# EAGLE library part ODROID_XU4_30PIN_CONN (library nickZhang)
Odroid XU4's CON10 (30pin header) Pin layout for Odroid XU4's CON10 (30pin header). NOTE: There are two versions. One original and one coupled(mirrored). Use the original for stacking extensionboards. Use the couped version if you have an inverted stacking board(if the top plate is facing toward Odroid.) if your board is connected through a cable, it depends on what kind of cable you use. Be careful about pin location before use, you may want to use a mirrored version Reference <https://wiki.odroid.com/odroid-xu4/hardware/expansion_connectors>
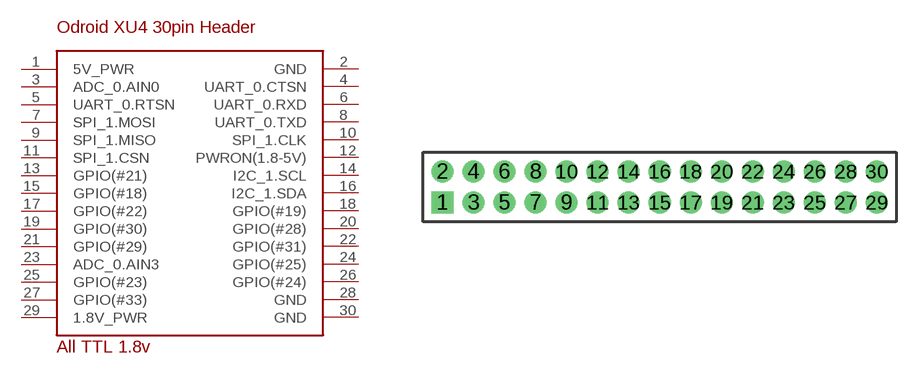
[diagram p1: symbol with the pads of 2X15M; footprint 2X15M]

Designator prefix -

## ODROID_XU4_30PIN_CONN  [2X15M]
1  5V_PWR
2  GND
3  ADC_0.AIN0
4  UART_0.CTSN
5  UART_0.RTSN
6  UART_0.RXD
7  SPI_1.MOSI
8  UART_0.TXD
9  SPI_1.MISO
10  SPI_1.CLK
11  SPI_1.CSN
12  PWRON(1.8-5V)
13  GPIO(#21)
14  I2C_1.SCL
15  GPIO(#18)
16  I2C_1.SDA
17  GPIO(#22)
18  GPIO(#19)
19  GPIO(#30)
20  GPIO(#28)
21  GPIO(#29)
22  GPIO(#31)
23  ADC_0.AIN3
24  GPIO(#25)
25  GPIO(#23)
26  GPIO(#24)
27  GPIO(#33)
28  GND
29  1.8V_PWR
30  GND

## Footprint 2X15M (pad centres in mm)
PIN HEADER - 2
drill 0.914 square: 1 -14,-1
drill 0.914: 2 -14,1; 3 -12,-1; 4 -12,1; 5 -10,-1; 6 -10,1; 7 -8,-1; 8 -8,1; 9 -6,-1; 10 -6,1; 11 -4,-1; 12 -4,1; 13 -2,-1; 14 -2,1; 15 0,-1; 16 0,1; 17 2,-1; 18 2,1; 19 4,-1; 20 4,1; 21 6,-1; 22 6,1; 23 8,-1; 24 8,1; 25 10,-1; 26 10,1; 27 12,-1; 28 12,1; 29 14,-1; 30 14,1